# Altium footprint library TZJLIB.PcbLib: 76 footprints (part 2 of 5)
Each footprint in its own frame and in the unit in brackets; x right, y up, seen from the top. Pads: shape width x height; smd on the part's side, far side on the other; paste and mask are expansions set on the pad; w line width, h text height; cw(c..) or ccw(c..) is an arc to the next point about the centre after c.
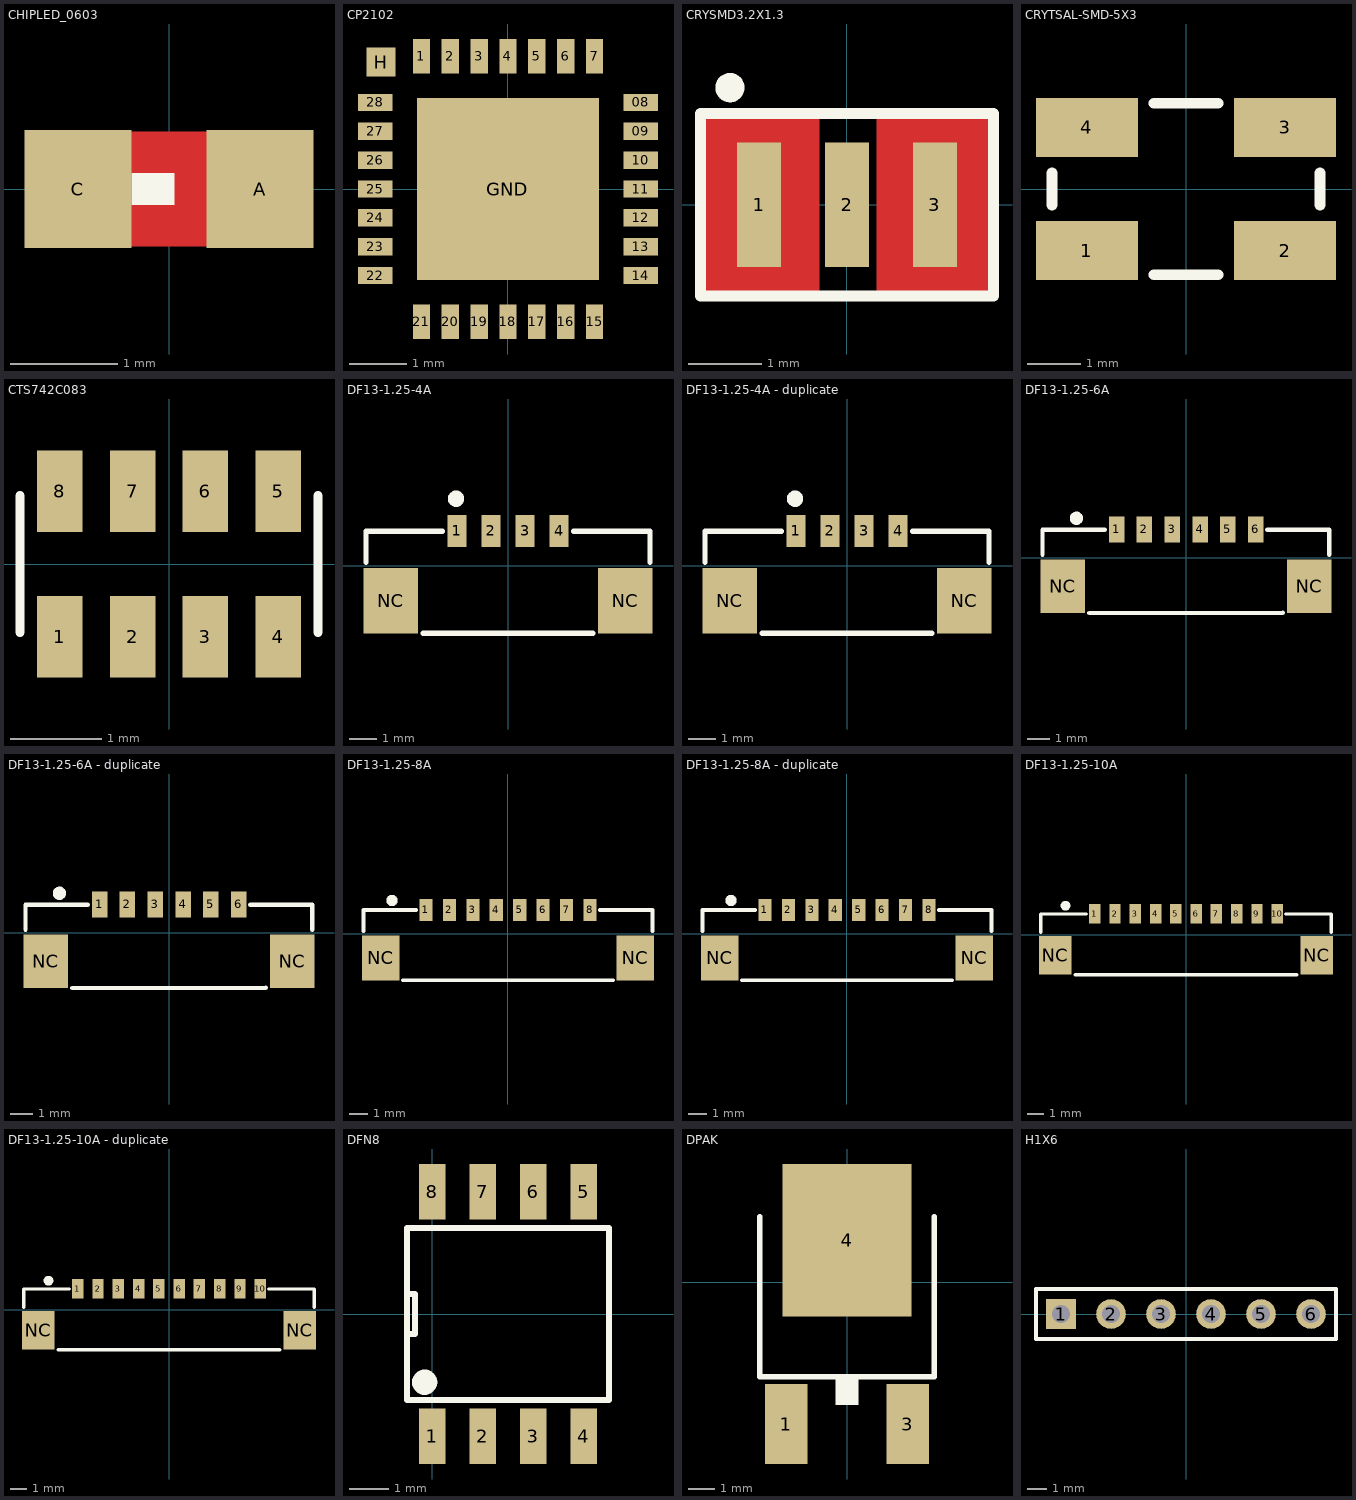
[diagram p1: the footprints below, top view; thin cyan lines are the x and y axes]

## CHIPLED_0603 [mm] "CHIPLED_0603"
pads (2):
  rect 1x1.1 smd: A(0.85,0) C(-0.85,0)
Top Layer:
  pour cut-out: -0.356,0.533 -0.356,-0.533 0.356,-0.533 0.356,0.533
Top Overlay:
  region: 0.05,-0.15 0.05,0.15 -0.35,0.15 -0.35,-0.15
Mechanical 6:
  rectangle: -0.2,-0.4 0.2,0.4

## CP2102 [mm]
pads (30):
  rect 0.3x0.6 smd: 1(-1.5,2.3) 2(-1,2.3) 3(-0.5,2.3) 4(0,2.3) 5(0.5,2.3) 6(1,2.3) 7(1.5,2.3) 15(1.5,-2.3) 16(1,-2.3) 17(0.5,-2.3) 18(0,-2.3) 19(-0.5,-2.3) 20(-1,-2.3) 21(-1.5,-2.3)
  rect 0.6x0.3 smd: 08(2.3,1.5) 09(2.3,1) 10(2.3,0.5) 11(2.3,0) 12(2.3,-0.5) 13(2.3,-1) 14(2.3,-1.5) 22(-2.3,-1.5) 23(-2.3,-1) 24(-2.3,-0.5) 25(-2.3,0) 26(-2.3,0.5) 27(-2.3,1) 28(-2.3,1.5)
  rect 3.15x3.15 smd: GND(0,0)
  rect 0.5x0.5 smd: H(-2.2,2.2)

## CRYSMD3.2X1.3 [mm]
height 10.058
pads (3):
  rect 0.6x1.7 smd: 1(-1.2,0) 2(0,0) 3(1.2,0)
Top Layer:
  pour cut-out: 1.981,1.245 0.406,1.245 0.406,-1.245 1.956,-1.245 1.981,-1.219
  pour cut-out: -2.007,1.245 -0.381,1.245 -0.381,-1.27 -2.007,-1.27
Top Overlay:
  circle w0.2: c-1.6,1.6 r0.1
  lines w0.15: -2,-1.25 2,-1.25 2,1.25 -2,1.25 -2,-1.25

## CRYTSAL-SMD-5X3 [mm] "CRYTSAL-SMD-5X3"
pads (4):
  rect 1.9x1.1 smd: 1(-1.85,-1.15) 2(1.85,-1.15) 3(1.85,1.15) 4(-1.85,1.15)
Top Overlay:
  lines w0.203: -2.5,-0.3 -2.5,0.3 ; -0.6,-1.6 0.6,-1.6 ; -0.6,1.6 0.6,1.6 ; 2.5,-0.3 2.5,0.3

## CTS742C083 [mil] "CTS742C083"
pads (8):
  rect 19.69x35.43 smd: 1(-47.24,-31.5) 2(-15.75,-31.5) 3(15.75,-31.5) 4(47.24,-31.5) 5(47.24,31.5) 6(15.75,31.5) 7(-15.75,31.5) 8(-47.24,31.5)
Top Overlay:
  lines w4: -64.52,-29.53 -64.52,29.53 ; 64.52,-29.53 64.52,29.53
Top Solder:
  rectangle: -59.06,-51.18 -35.43,-11.81
  rectangle: -27.56,-51.18 -3.94,-11.81
  rectangle: 3.94,-51.18 27.56,-11.81
  rectangle: 35.43,-51.18 59.06,-11.81
  region: 59.06,51.18 35.43,51.18 35.43,11.81 59.06,11.81
  region: 27.56,51.18 3.94,51.18 3.94,11.81 27.56,11.81
  region: -3.94,51.18 -27.56,51.18 -27.56,11.81 -3.94,11.81
  region: -35.43,51.18 -59.06,51.18 -59.06,11.81 -35.43,11.81

## DF13-1.25-4A [mm] "佳能"
pads (6):
  rect 0.7x1.18 smd: 1(-1.875,1.28) 2(-0.625,1.28) 3(0.625,1.28) 4(1.875,1.28)
  rect 2x2.4 smd: NC(-4.3,-1.28) NC(4.3,-1.28)
Top Overlay:
  circle w0.3: c-1.906,2.459 r0.15
  lines w0.2: -5.207,0.135 -5.207,1.27 -2.405,1.27 ; -3.1,-2.48 3.1,-2.48 ; 2.405,1.27 5.207,1.27 5.207,0.135

## DF13-1.25-4A - duplicate [mm] "佳能"
pads (6):
  rect 0.7x1.18 smd: 1(-1.875,1.28) 2(-0.625,1.28) 3(0.625,1.28) 4(1.875,1.28)
  rect 2x2.4 smd: NC(-4.3,-1.28) NC(4.3,-1.28)
Top Overlay:
  circle w0.3: c-1.906,2.459 r0.15
  lines w0.2: -5.207,0.135 -5.207,1.27 -2.405,1.27 ; -3.1,-2.48 3.1,-2.48 ; 2.405,1.27 5.207,1.27 5.207,0.135

## DF13-1.25-6A [mm]
pads (8):
  rect 0.7x1.18 smd: 1(-3.119,1.28) 2(-1.869,1.28) 3(-0.619,1.28) 4(0.631,1.28) 5(1.881,1.28) 6(3.131,1.28)
  rect 2x2.4 smd: NC(-5.544,-1.28) NC(5.544,-1.28)
Top Overlay:
  circle w0.3: c-4.927,1.778 r0.15
  lines w0.2: -6.451,0.135 -6.451,1.27 -3.649,1.27 ; -4.344,-2.48 4.356,-2.476 ; 3.658,1.27 6.439,1.27 6.439,0.135

## DF13-1.25-6A - duplicate [mm]
pads (8):
  rect 0.7x1.18 smd: 1(-3.119,1.28) 2(-1.869,1.28) 3(-0.619,1.28) 4(0.631,1.28) 5(1.881,1.28) 6(3.131,1.28)
  rect 2x2.4 smd: NC(-5.544,-1.28) NC(5.544,-1.28)
Top Overlay:
  circle w0.3: c-4.927,1.778 r0.15
  lines w0.2: -6.451,0.135 -6.451,1.27 -3.649,1.27 ; -4.344,-2.48 4.356,-2.476 ; 3.658,1.27 6.439,1.27 6.439,0.135

## DF13-1.25-8A [mm]
pads (10):
  rect 0.7x1.18 smd: 1(-4.375,1.28) 2(-3.125,1.28) 3(-1.875,1.28) 4(-0.625,1.28) 5(0.625,1.28) 6(1.875,1.28) 7(3.125,1.28) 8(4.375,1.28)
  rect 2x2.4 smd: NC(-6.8,-1.28) NC(6.8,-1.28)
Top Overlay:
  circle w0.3: c-6.183,1.778 r0.15
  lines w0.2: -7.707,0.135 -7.707,1.27 -4.905,1.27 ; -5.6,-2.48 5.6,-2.48 ; 4.905,1.27 7.707,1.27 7.707,0.135

## DF13-1.25-8A - duplicate [mm]
pads (10):
  rect 0.7x1.18 smd: 1(-4.375,1.28) 2(-3.125,1.28) 3(-1.875,1.28) 4(-0.625,1.28) 5(0.625,1.28) 6(1.875,1.28) 7(3.125,1.28) 8(4.375,1.28)
  rect 2x2.4 smd: NC(-6.8,-1.28) NC(6.8,-1.28)
Top Overlay:
  circle w0.3: c-6.183,1.778 r0.15
  lines w0.2: -7.707,0.135 -7.707,1.27 -4.905,1.27 ; -5.6,-2.48 5.6,-2.48 ; 4.905,1.27 7.707,1.27 7.707,0.135

## DF13-1.25-10A [mm]
pads (12):
  rect 0.7x1.18 smd: 1(-5.625,1.28) 2(-4.375,1.28) 3(-3.125,1.28) 4(-1.875,1.28) 5(-0.625,1.28) 6(0.625,1.28) 7(1.875,1.28) 8(3.125,1.28) 9(4.375,1.28) 10(5.625,1.28)
  rect 2x2.4 smd: NC(-8.05,-1.28) NC(8.05,-1.28)
Top Overlay:
  circle w0.3: c-7.433,1.778 r0.15
  lines w0.2: -8.957,0.135 -8.957,1.27 -6.155,1.27 ; -6.85,-2.48 6.85,-2.48 ; 6.155,1.27 8.957,1.27 8.957,0.135

## DF13-1.25-10A - duplicate [mm]
pads (12):
  rect 0.7x1.18 smd: 1(-5.625,1.28) 2(-4.375,1.28) 3(-3.125,1.28) 4(-1.875,1.28) 5(-0.625,1.28) 6(0.625,1.28) 7(1.875,1.28) 8(3.125,1.28) 9(4.375,1.28) 10(5.625,1.28)
  rect 2x2.4 smd: NC(-8.05,-1.28) NC(8.05,-1.28)
Top Overlay:
  circle w0.3: c-7.433,1.778 r0.15
  lines w0.2: -8.957,0.135 -8.957,1.27 -6.155,1.27 ; -6.85,-2.48 6.85,-2.48 ; 6.155,1.27 8.957,1.27 8.957,0.135

## DFN8 [mil] "DFN8"
pads (8):
  rect 26x55 smd: 1(0,-121) 2(50,-121) 3(100,-121) 4(150,-121) 5(150,121) 6(100,121) 7(50,121) 8(0,121)
Top Overlay:
  circle w15: c-7.5,-67.5 r5
  lines w6: -25,-20 -17,-20 -17,20 -25,20 ; -25,-20 -25,20 ; -25,-20 -25,-85 175,-85 175,85 -25,85 -25,20

## DPAK [mm] "DPAK"
pads (3):
  rect 1.6x3 smd: 1(-2.28,-5.31) 3(2.28,-5.31)
  rect 4.826x5.715 smd: 4(0,1.588)
Top Overlay:
  rectangle: -0.432,-4.339 0.432,-3.577
  rectangle: -0.432,-4.593 0.432,-3.831
  lines w0.203: -3.277,2.465 -3.277,-3.538 3.277,-3.538 3.277,2.465

## H1X6 [mm] "Connector; Header; 6 Position"
pads (6):
  rect 1.5x1.5 hole 0.9: 1(-6.35,0)
  round 1.5 hole 0.9: 2(-3.81,0) 3(-1.27,0) 4(1.27,0) 5(3.81,0) 6(6.35,0)
Top Overlay:
  lines w0.2: -7.62,-1.27 -7.62,1.27 7.62,1.27 7.62,-1.27 -7.62,-1.27